# Altium footprint library 钽电容.PcbLib: 6 footprints
Each footprint in its own frame and in the unit in brackets; x right, y up, seen from the top. Pads: shape width x height; smd on the part's side, far side on the other; paste and mask are expansions set on the pad; w line width, h text height; cw(c..) or ccw(c..) is an arc to the next point about the centre after c.
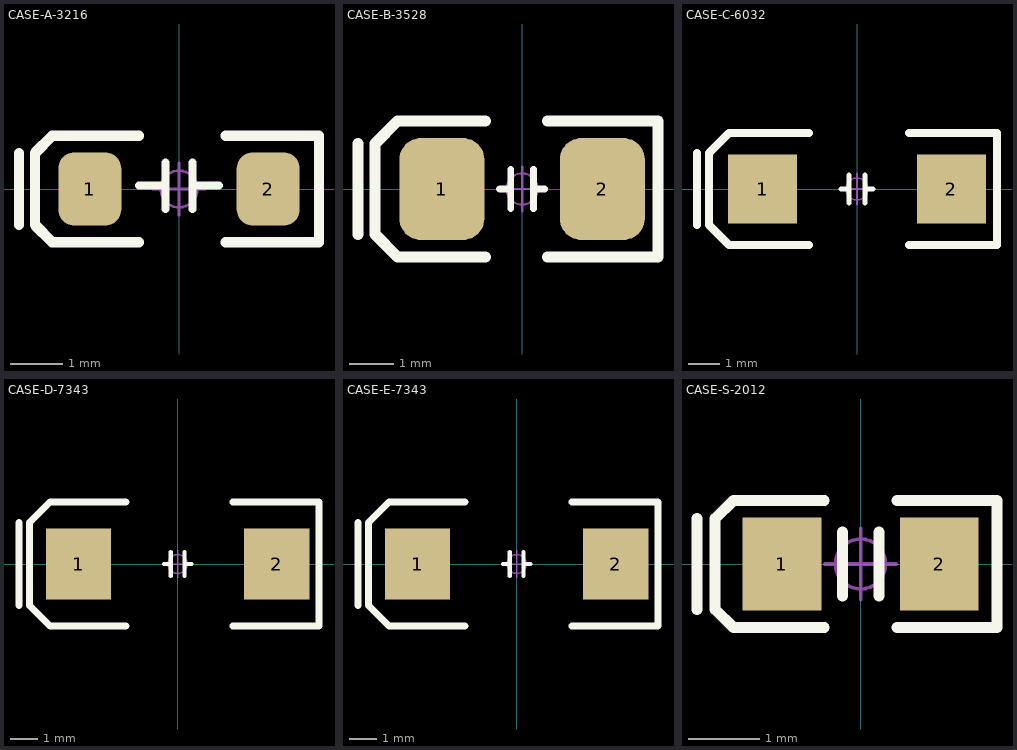
[diagram p0: the footprints below, top view; thin cyan lines are the x and y axes]

## CASE-A-3216 [mm] "长3.2mm，宽1.6mm，厚1.6mm"
pads (2):
  rrect50% 1.2x1.4 smd: 1(-1.7,0) 2(1.7,0)
Top Overlay:
  lines w0.152: -0.762,0.064 -0.254,0.064 ; -0.254,-0.381 -0.254,0.508 ; 0.254,-0.381 0.254,0.508 ; 0.254,0.064 0.762,0.064
  lines w0.2: -3.048,-0.686 -3.048,0.686 ; -0.762,-1.016 -2.413,-1.016 -2.743,-0.686 -2.743,0.686 -2.413,1.016 -0.762,1.016 ; 0.889,-1.016 2.667,-1.016 2.667,1.016 0.889,1.016
Mechanical 15:
  circle w0.05: c0,0 r0.35
  lines w0.05: -0.5,0 0.5,0 ; 0,-0.5 0,0.5
3D body "CD A(3216).STEP": height 1.6, standoff -0.01, extent -1.6,-0.8 1.6,0.8

## CASE-B-3528 [mil] "长3.5mm，宽2.8mm，厚1.9mm"
pads (2):
  rrect50% 75x90 smd: 1(-70.87,-0.01) 2(70.86,-0.01)
Top Overlay:
  lines w6: -20,0 -10,0 ; -10,-17.5 -10,17.5 ; 10,-17.5 10,17.5 ; 10,0 20,0
  lines w10: -145,-40 -145,40 ; -32.51,-60 -110,-60 -130,-40 -130,40 -110,60 -32.51,60 ; 22.49,-60 120,-60 120,60 22.49,60
Mechanical 15:
  circle w1.97: c0,0 r13.78
  lines w1.97: -19.68,0 19.68,0 ; 0,-19.68 0,19.68
3D body "CD B(3528).STEP": height 74.84, standoff -0.3, extent -68.92,-55.12 68.91,55.11

## CASE-C-6032 [mm] "长6.0mm，宽3.2mm，厚2.5mm"
pads (2):
  rect 2.2x2.2 smd paste-0.127: 1(-3,0) 2(3,0)
Top Overlay:
  lines w0.152: -0.508,0 -0.254,0 ; -0.254,-0.445 -0.254,0.445 ; 0.254,-0.445 0.254,0.445 ; 0.254,0 0.508,0
  lines w0.254: -5.08,-1.143 -5.08,1.143 ; -1.524,-1.778 -4.064,-1.778 -4.699,-1.143 -4.699,1.143 -4.064,1.778 -1.524,1.778 ; 1.651,-1.778 4.445,-1.778 4.445,1.778 1.651,1.778
Mechanical 15:
  circle w0.05: c0,0 r0.35
  lines w0.05: -0.5,0 0.5,0 ; 0,-0.5 0,0.5
3D body "CD C(6032).STEP": height 2.5, standoff -0.01, extent -3,-1.6 3,1.6

## CASE-D-7343 [mm] "长7.3mm，宽4.3mm，厚2.8mm"
pads (2):
  rect 2.4x2.6 smd paste-0.127: 1(-3.65,0) 2(3.65,0)
Top Overlay:
  lines w0.152: -0.508,0 -0.254,0 ; -0.254,-0.445 -0.254,0.445 ; 0.254,-0.445 0.254,0.445 ; 0.254,0 0.508,0
  lines w0.254: -5.842,-1.524 -5.842,1.524 ; -1.905,-2.286 -4.699,-2.286 -5.461,-1.524 -5.461,1.524 -4.699,2.286 -1.905,2.286 ; 2.032,-2.286 5.207,-2.286 5.207,2.286 2.032,2.286
Mechanical 15:
  circle w0.05: c0,0 r0.35
  lines w0.05: -0.5,0 0.5,0 ; 0,-0.5 0,0.5
3D body "CD D(7343H).STEP": height 2.8, standoff -0.01, extent -3.65,-2.15 3.65,2.15

## CASE-E-7343 [mm] "长7.3mm，宽4.3mm，厚4.0mm"
pads (2):
  rect 2.4x2.6 smd paste-0.152: 1(-3.65,0) 2(3.65,0)
Top Overlay:
  lines w0.152: -0.508,0 -0.254,0 ; -0.254,-0.445 -0.254,0.445 ; 0.254,-0.445 0.254,0.445 ; 0.254,0 0.508,0
  lines w0.254: -5.842,-1.524 -5.842,1.524 ; -1.905,-2.286 -4.699,-2.286 -5.461,-1.524 -5.461,1.524 -4.699,2.286 -1.905,2.286 ; 2.032,-2.286 5.207,-2.286 5.207,2.286 2.032,2.286
Mechanical 15:
  circle w0.05: c0,0 r0.35
  lines w0.05: -0.5,0 0.5,0 ; 0,-0.5 0,0.5
3D body "CD E(7343H).STEP": height 4, standoff -0.01, extent -3.65,-2.15 3.65,2.15

## CASE-S-2012 [mm] "长2.0mm，宽1.25mm，厚1.2mm"
pads (2):
  rect 1.1x1.3 smd paste-0.076: 1(-1.1,0) 2(1.1,0)
Top Overlay:
  lines w0.152: -2.286,-0.635 -2.286,0.635 ; -0.508,-0.889 -1.778,-0.889 -2.032,-0.635 -2.032,0.254 -2.032,0.635 -1.778,0.889 -0.508,0.889 ; -0.254,-0.445 -0.254,0.445 ; 0.254,-0.445 0.254,0.445 ; 0.508,-0.889 1.905,-0.889 1.905,0.889 0.508,0.889
Mechanical 15:
  circle w0.05: c0,0 r0.35
  lines w0.05: -0.5,0 0.5,0 ; 0,-0.5 0,0.5
3D body "CD S(2012).STEP": height 1.2, standoff 0, extent -1,-0.6 1,0.6